# Altium schematic symbol library T8_devkit_PCB.SchLib: 19 symbols
Pins are listed as number, name and electrical type; pins without a type are passive.

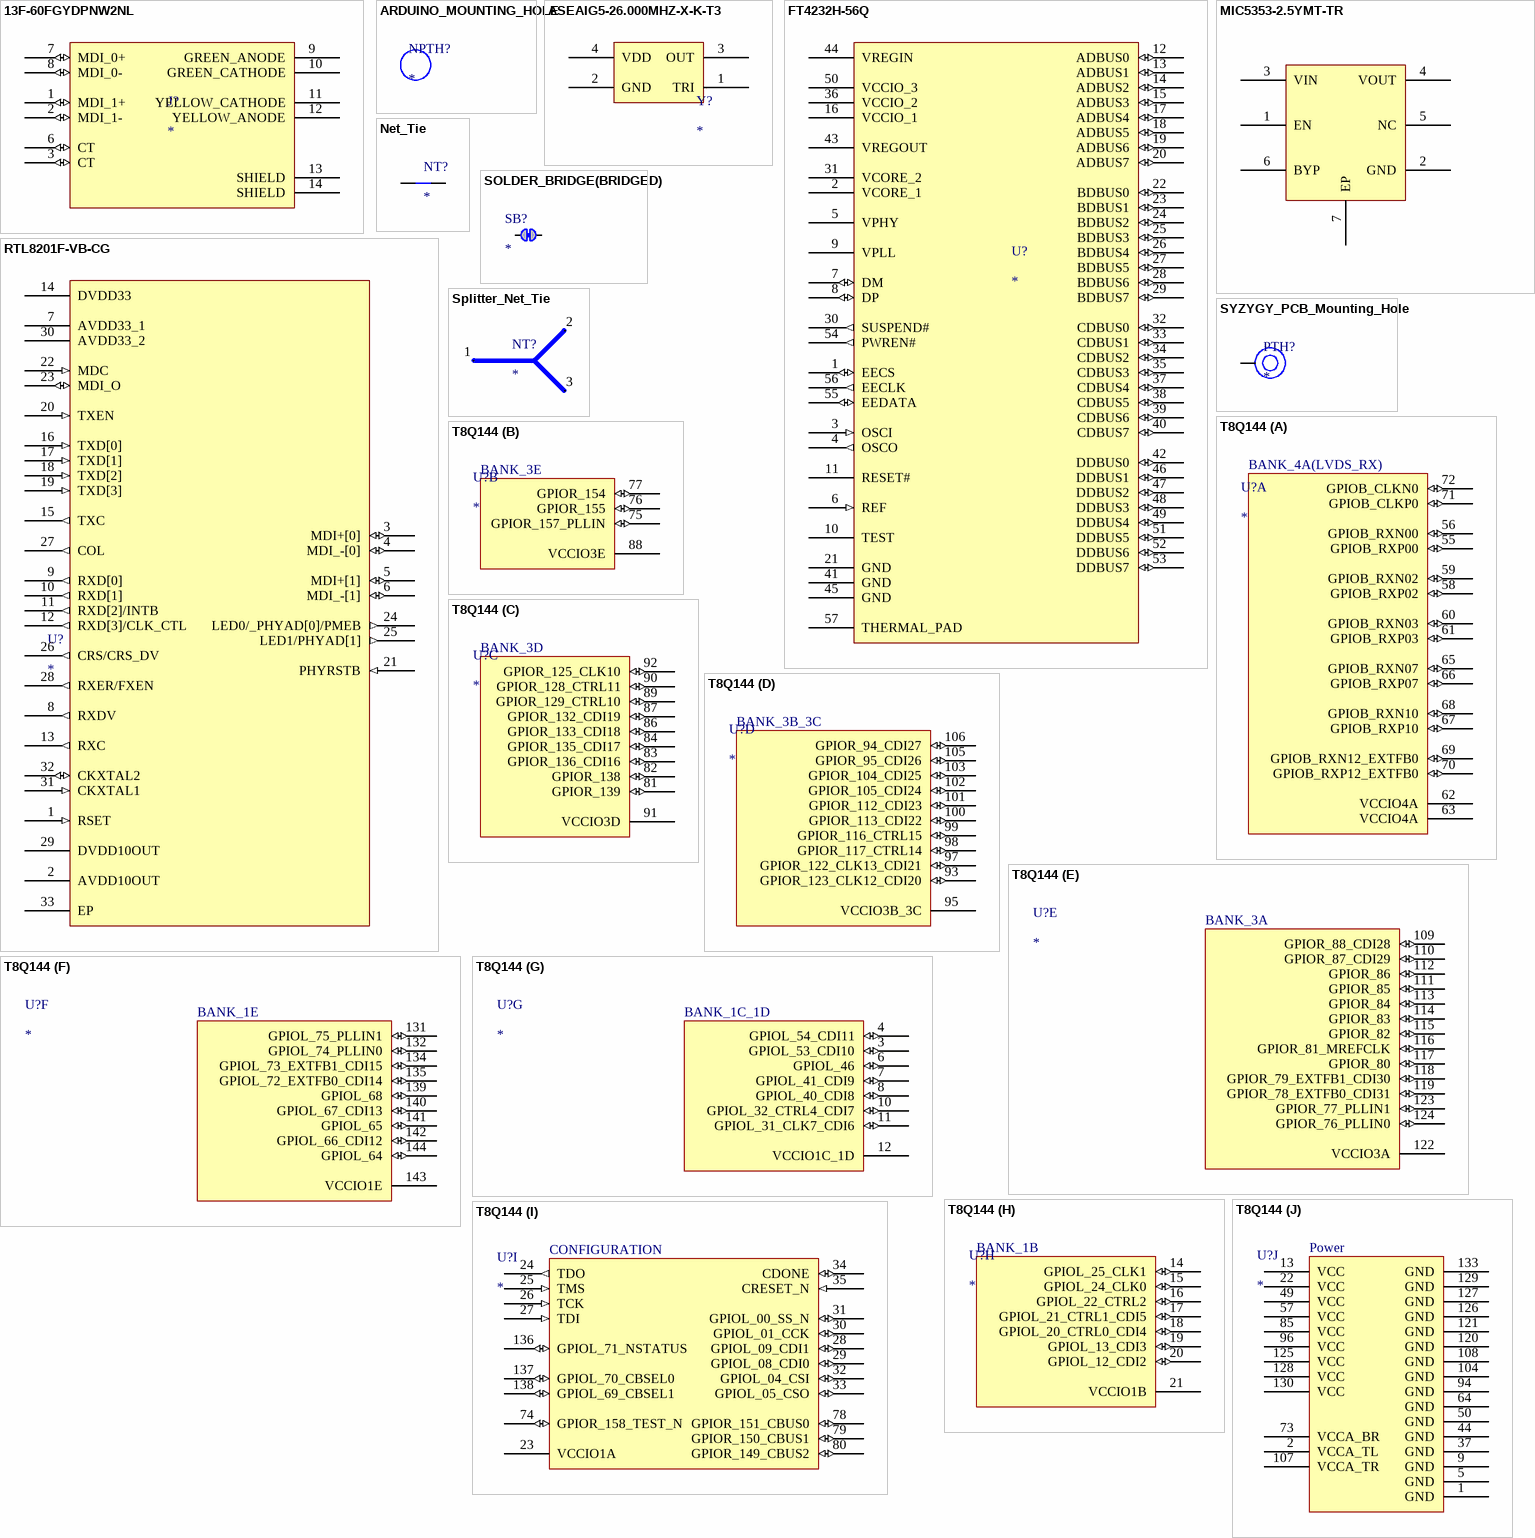
[diagram p0: symbols 13F-60FGYDPNW2NL to T8Q144]

## 13F-60FGYDPNW2NL
designator J?
RJ45 RJReceptacle 1 Internal oscillator included  WithLED Plugin  Ethernet Connectors/Modular Connectors (RJ45 RJ11) ROHS; Manufacturer: Shanghai YDS Tech; Manufacturer Part Number: 13F-60FGYDPNW2NL; Number of Ports: 1; LCSC Part Number: C115955; Package: Plugin; ComponentLink1Description: Datasheet; ComponentLink1URL: https://datasheet.lcsc.com/lcsc/1811141132_Shanghai-YDS-Tech-13F-60FGYDPNW2NL_C115955.pdf; ComponentLink2Description: LCSC Link; ComponentLink2URL: https://www.lcsc.com/product-detail/Ethernet-Connectors-Modular-Connectors-RJ45-RJ11_Shanghai-YDS-Tech-13F-60FGYDPNW2NL_C115955.html; USOC Codes: RJ45; Connector Type: RJReceptacle; Ratings: -; LED: WithLED
footprint RJ4516.26X21.59X13.84 (RJ45 ETHERNET CONNECTOR 16.26X21.59X13.84)
pins: 1 MDI_1+ (io), 2 MDI_1- (io), 3 CT (io), 6 CT (io), 7 MDI_0+ (io), 8 MDI_0- (io), 9 GREEN_ANODE (power), 10 GREEN_CATHODE (power), 11 YELLOW_CATHODE (power), 12 YELLOW_ANODE (power), 13 SHIELD, 14 SHIELD

## ARDUINO_MOUNTING_HOLE
designator NPTH?
ARDUINO_MOUNTING_HOLE
footprint ARDUINO_MOUNTING_HOLE

## ASEAIG5-26.000MHZ-X-K-T3
designator Y?
26 MHz XO (Standard) CMOS Oscillator 1.8V ~ 3.3V Enable/Disable 4-SMD, No Lead
pins: 1 TRI, 2 GND, 3 OUT, 4 VDD

## FT4232H-56Q
designator U?
USB Bridge, USB to UART,FIFO USB 2.0 FIFO Interface 56-VQFN (8x8); Manufacturer: FTDI, Future Technology Devices International Ltd; Manufacturer Product Number: FT4232H-56Q-REEL; Standards: USB 2.0; Voltage - Supply: 3.3V; Supplier 1: Digi-Key; Supplier Part Number 1: 768-1378-1-ND; Supplier 2: Digi-Key; Supplier Part Number 2: 768-1378-6-ND; Supplier 3: RSComponents; Supplier Part Number 3: 1115836; Series: -; Protocol: USB; Function: Bridge, USB to UART,FIFO; Interface: FIFO; Current - Supply: -; ComponentLink1Description: Datasheet; ComponentLink1URL: https://www.ftdichip.com/Support/Documents/DataSheets/ICs/DS_FT4232H.pdf; ComponentLink2Description: Digi-Key Link; ComponentLink2URL: https://www.digikey.com/en/products/detail/ftdi-future-technology-devices-international-ltd/FT4232H-56Q-REEL/5994692; Operating Temperature: -40°C ~ 85°C; Package / Case: 56-VFQFN Exposed Pad; Supplier Device Package: 56-VQFN (8x8)
footprint QFN50P800X800X100-57N-D (QFN, 56-Leads, Body 8.00x8.00mm, Pitch 0.50mm, IPC Medium Density)
pins: 1 EECS (io), 2 VCORE_1 (power), 3 OSCI (in), 4 OSCO (out), 5 VPHY (power), 6 REF (in), 7 DM (io), 8 DP (io), 9 VPLL (power), 10 TEST, 11 RESET#, 12 ADBUS0 (io), 13 ADBUS1 (io), 14 ADBUS2 (io), 15 ADBUS3 (io), 16 VCCIO_1 (power), 17 ADBUS4 (io), 18 ADBUS5 (io), 19 ADBUS6 (io), 20 ADBUS7 (io), 21 GND (power), 22 BDBUS0 (io), 23 BDBUS1 (io), 24 BDBUS2 (io), 25 BDBUS3 (io), 26 BDBUS4 (io), 27 BDBUS5 (io), 28 BDBUS6 (io), 29 BDBUS7 (io), 30 SUSPEND# (out), 31 VCORE_2 (power), 32 CDBUS0 (io), 33 CDBUS1 (io), 34 CDBUS2 (io), 35 CDBUS3 (io), 36 VCCIO_2 (power), 37 CDBUS4 (io), 38 CDBUS5 (io), 39 CDBUS6 (io), 40 CDBUS7 (io), 41 GND (power), 42 DDBUS0 (io), 43 VREGOUT (power), 44 VREGIN (power), 45 GND (power), 46 DDBUS1 (io), 47 DDBUS2 (io), 48 DDBUS3 (io), 49 DDBUS4 (io), 50 VCCIO_3 (power), 51 DDBUS5 (io), 52 DDBUS6 (io), 53 DDBUS7 (io), 54 PWREN# (out), 55 EEDATA (io), 56 EECLK (out), 57 THERMAL_PAD

## MIC5353-2.5YMT-TR
designator IC?
Linear Voltage Regulator IC Positive Fixed 1 Output 500mA 6-TMLF® (1.6x1.6)
footprint SON50P160X160X60-7N
pins: 1 EN, 2 GND, 3 VIN, 4 VOUT, 5 NC, 6 BYP, 7 EP

## Net_Tie
designator NT?  (net tie, no BOM)
Net Tie
footprint Net_Tie 1X1 (Net Tie)
footprint Net_Tie 0.5X0.5 (Net Tie)
footprint Net_Tie 0.254X0.254 (Net Tie)
footprint Net_Tie 0.2X0.2 (Net Tie)
pins: 1, 2

## RTL8201F-VB-CG
designator U?
Physical Layer Transceivers 2.97V ~ 3.63V IEEE 802.3, 10/100 Base-T/TX/FX PHY MII, SNI, SMI QFN-32_5x5x05P Ethernet ICs ROHS; Manufacturer: Realtek Semicon; Manufacturer Part Number: RTL8201F-VB-CG; ComponentLink1Description: LCSC Link; ComponentLink1URL: https://www.lcsc.com/product-detail/Ethernet-ICs_Realtek-Semicon-RTL8201F-VB-CG_C45044.html; ComponentLink2Description: Datasheet; ComponentLink2URL: https://datasheetspdf.com/pdf-file/845737/Realtek/RTL8201F-VB-CG/1; Category: Communication Interface Chip/UART/485/232/Ethernet ICs; Type: Physical Layer Transceivers; Supply Voltage: 2.97V ~ 3.63V; Standards: IEEE 802.3, 10/100 Base-T/TX/FX PHY; Interface: MII, SNI, SMI; Package: QFN-32_5x5x05P; Supplier 1: Bison Technologies; Supplier Part Number 1: RTL8201F-VB-CG-220741-REALTEK; Supplier 2: Future Electronics; Supplier Part Number 2: 4019222
footprint QFN50P500X500X100_HS-33N (QFN, 32-Leads, Body 5.00x5.00mm, Pitch 0.50mm, Thermal Pad 3.35x3.35mm, IPC Medium Density)
pins: 1 RSET (in), 2 AVDD10OUT (power), 3 MDI+[0] (io), 4 MDI_-[0] (io), 5 MDI+[1] (io), 6 MDI_-[1] (io), 7 AVDD33_1 (power), 8 RXDV (out), 9 RXD[0] (out), 10 RXD[1] (out), 11 RXD[2]/INTB (out), 12 RXD[3]/CLK_CTL (out), 13 RXC (out), 14 DVDD33 (power), 15 TXC (out), 16 TXD[0] (in), 17 TXD[1] (in), 18 TXD[2] (in), 19 TXD[3] (in), 20 TXEN (in), 21 PHYRSTB (in), 22 MDC (in), 23 MDI_O (io), 24 LED0/_PHYAD[0]/PMEB (out), 25 LED1/PHYAD[1] (out), 26 CRS/CRS_DV (out), 27 COL (out), 28 RXER/FXEN (out), 29 DVDD10OUT (power), 30 AVDD33_2 (power), 31 CKXTAL1 (in), 32 CKXTAL2 (io), 33 EP (power)

## SOLDER_BRIDGE(BRIDGED)
designator SB?
SOLDER_BRIDGE(BRIDGED)
footprint SOLDER_BRIDGE(BRIDGED)
pins: 1, 2

## Splitter_Net_Tie
designator NT?  (net tie, no BOM)
Splitter_Net_Tie
footprint GENERIC SPLITTER NET TIE
pins: 1, 2, 3

## SYZYGY_PCB_Mounting_Hole
designator PTH?  (mechanical)
SYZYGY_PCB_Mounting_Hole
footprint SYZYGY_PCB_Mounting_Hole
pins: 1

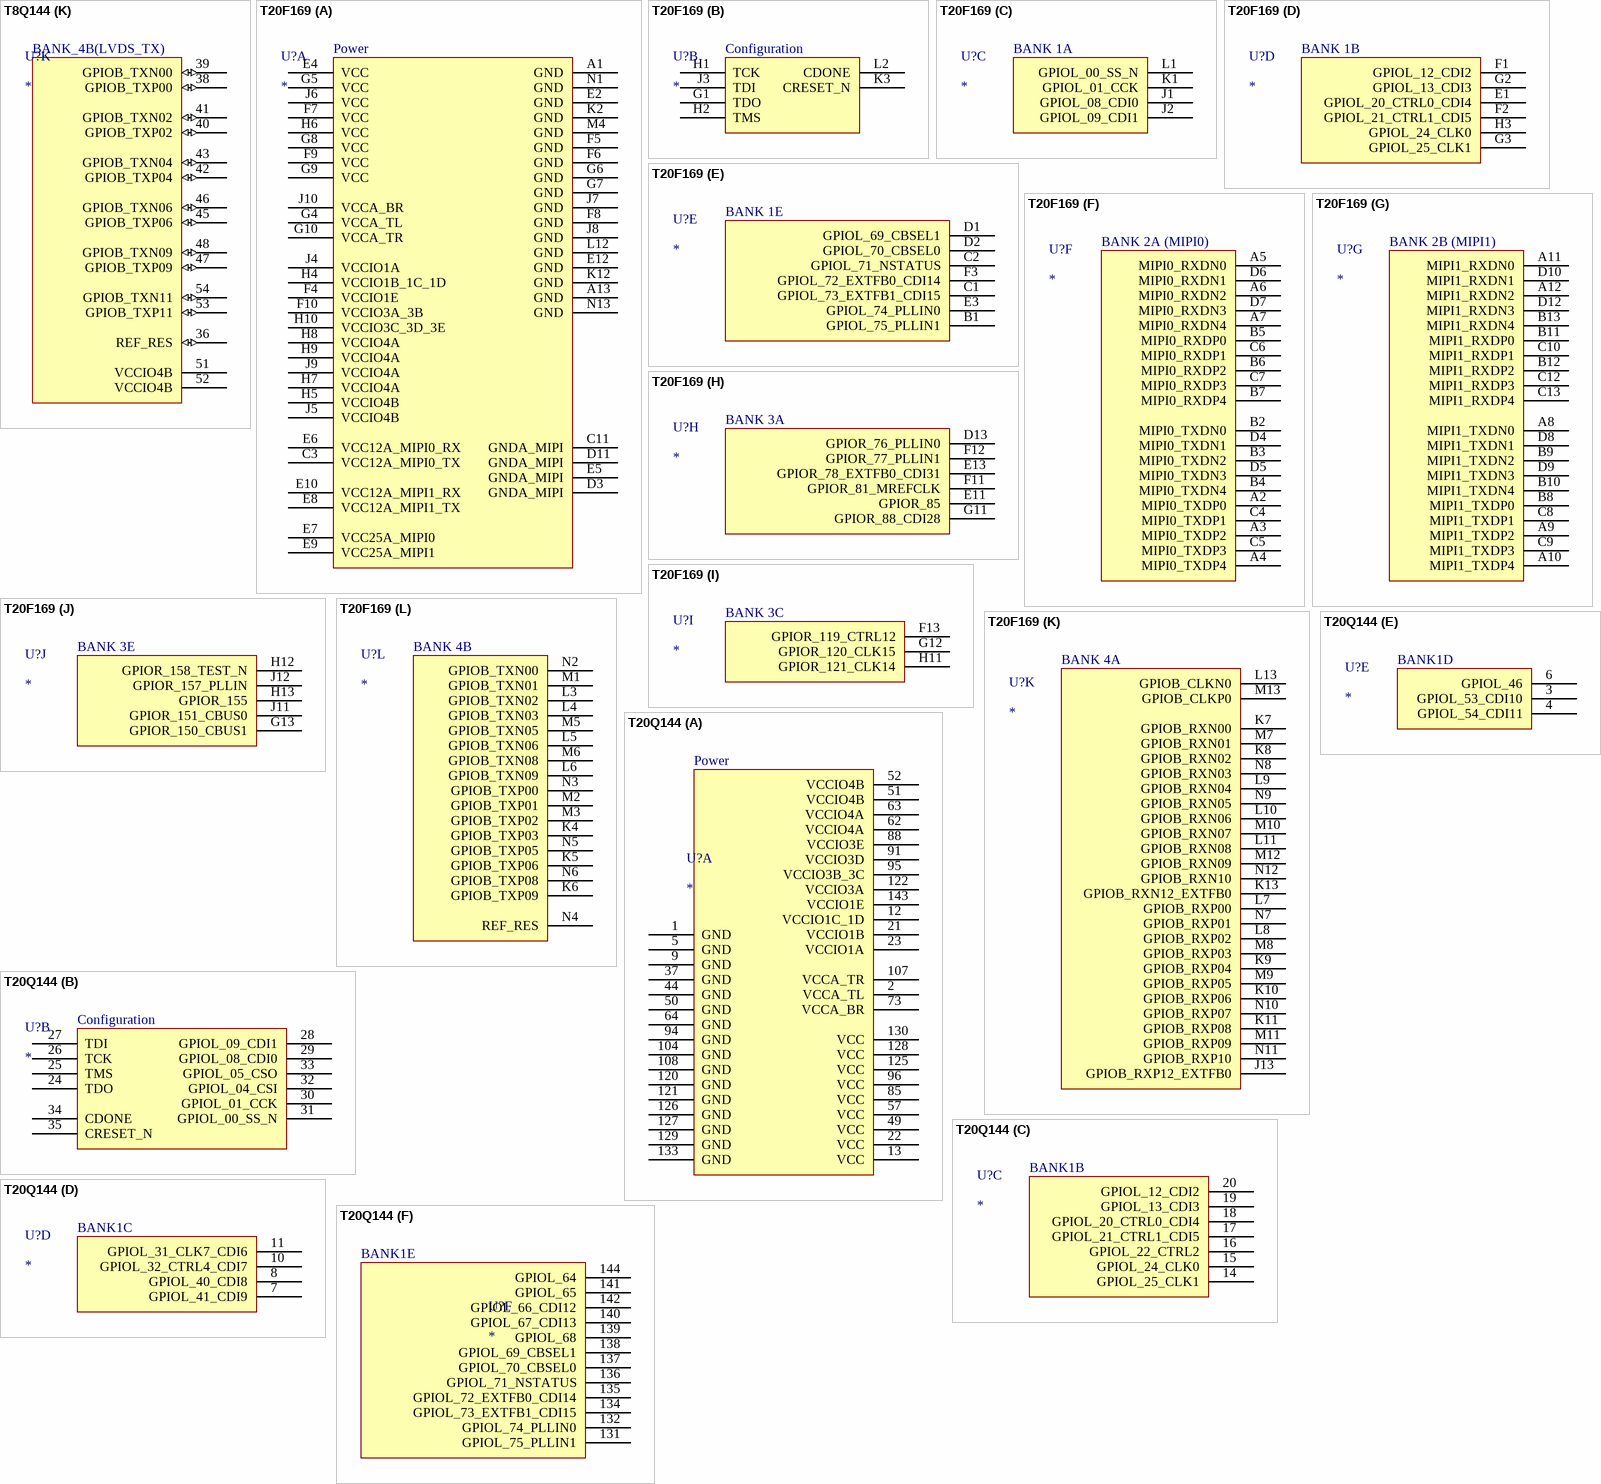
[diagram p1: symbols T8Q144 to T20Q144]

## T8Q144
designator U?
Trion® Field Programmable Gate Array (FPGA) IC 97 125952 7384 144-LQFP; Manufacturer: Efinix, Inc.; Manufacturer Product Number: T8Q144I4; Number of Logic Elements/Cells: 7384; Total RAM Bits: 125952; Number of I/O: 97; Voltage - Supply: 1.15V ~ 1.25V; Base Product Number: T8Q144; ComponentLink1Description: Datasheet; ComponentLink1URL: https://www.efinixinc.com/docs/trion8-ds-v4.0.pdf; ComponentLink2Description: Digi-Key Link; ComponentLink2URL: https://www.digikey.com/en/products/detail/efinix-inc/T8Q144I4/11591372; Mounting Type: Surface Mount; Operating Temperature: -40°C ~ 100°C (TJ); Package / Case: 144-LQFP; Supplier 1: Digi-Key; Supplier Part Number 1: 2134-T8Q144I4-ND; Supplier 2: Digi-Key; Supplier Part Number 2: 2134-T8Q144C3-ND; Supplier 3: Digi-Key; Supplier Part Number 3: 2134-T8Q144C4-ND; Supplier Device Package: 144-LQFP (20x20)
footprint CQFP50P2200X2200X160-144N (CQFP, 144-Leads, Body 22.00x22.00mm, Pitch 0.50mm, IPC Medium Density)
ibis T8 (Trion T8 IBIS model)
signal-integrity model T8_SI (Trion T8 Signal Integrity model)
part A pins: 55 GPIOB_RXP00 (io), 56 GPIOB_RXN00 (io), 58 GPIOB_RXP02 (io), 59 GPIOB_RXN02 (io), 60 GPIOB_RXN03 (io), 61 GPIOB_RXP03 (io), 62 VCCIO4A (power), 63 VCCIO4A (power), 65 GPIOB_RXN07 (io), 66 GPIOB_RXP07 (io), 67 GPIOB_RXP10 (io), 68 GPIOB_RXN10 (io), 69 GPIOB_RXN12_EXTFB0 (io), 70 GPIOB_RXP12_EXTFB0 (io), 71 GPIOB_CLKP0 (io), 72 GPIOB_CLKN0 (io)
part B pins: 75 GPIOR_157_PLLIN (io), 76 GPIOR_155 (io), 77 GPIOR_154 (io), 88 VCCIO3E
part C pins: 81 GPIOR_139 (io), 82 GPIOR_138 (io), 83 GPIOR_136_CDI16 (io), 84 GPIOR_135_CDI17 (io), 86 GPIOR_133_CDI18 (io), 87 GPIOR_132_CDI19 (io), 89 GPIOR_129_CTRL10 (io), 90 GPIOR_128_CTRL11 (io), 91 VCCIO3D (power), 92 GPIOR_125_CLK10 (io)
part D pins: 93 GPIOR_123_CLK12_CDI20 (io), 95 VCCIO3B_3C, 97 GPIOR_122_CLK13_CDI21 (io), 98 GPIOR_117_CTRL14 (io), 99 GPIOR_116_CTRL15 (io), 100 GPIOR_113_CDI22 (io), 101 GPIOR_112_CDI23 (io), 102 GPIOR_105_CDI24 (io), 103 GPIOR_104_CDI25 (io), 105 GPIOR_95_CDI26 (io), 106 GPIOR_94_CDI27 (io)
part E pins: 109 GPIOR_88_CDI28 (io), 110 GPIOR_87_CDI29 (io), 111 GPIOR_85 (io), 112 GPIOR_86 (io), 113 GPIOR_84 (io), 114 GPIOR_83 (io), 115 GPIOR_82 (io), 116 GPIOR_81_MREFCLK (io), 117 GPIOR_80 (io), 118 GPIOR_79_EXTFB1_CDI30 (io), 119 GPIOR_78_EXTFB0_CDI31 (io), 122 VCCIO3A (power), 123 GPIOR_77_PLLIN1 (io), 124 GPIOR_76_PLLIN0 (io)
part F pins: 131 GPIOL_75_PLLIN1 (io), 132 GPIOL_74_PLLIN0 (io), 134 GPIOL_73_EXTFB1_CDI15 (io), 135 GPIOL_72_EXTFB0_CDI14 (io), 139 GPIOL_68 (io), 140 GPIOL_67_CDI13 (io), 141 GPIOL_65 (io), 142 GPIOL_66_CDI12 (io), 143 VCCIO1E (power), 144 GPIOL_64 (io)
part G pins: 3 GPIOL_53_CDI10 (io), 4 GPIOL_54_CDI11 (io), 6 GPIOL_46 (io), 7 GPIOL_41_CDI9 (io), 8 GPIOL_40_CDI8 (io), 10 GPIOL_32_CTRL4_CDI7 (io), 11 GPIOL_31_CLK7_CDI6 (io), 12 VCCIO1C_1D (power)
part H pins: 14 GPIOL_25_CLK1 (io), 15 GPIOL_24_CLK0 (io), 16 GPIOL_22_CTRL2 (io), 17 GPIOL_21_CTRL1_CDI5 (io), 18 GPIOL_20_CTRL0_CDI4 (io), 19 GPIOL_13_CDI3 (io), 20 GPIOL_12_CDI2 (io), 21 VCCIO1B (power)
part I pins: 23 VCCIO1A (power), 24 TDO (out), 25 TMS (in), 26 TCK (in), 27 TDI (in), 28 GPIOL_09_CDI1 (io), 29 GPIOL_08_CDI0 (io), 30 GPIOL_01_CCK (io), 31 GPIOL_00_SS_N (io), 32 GPIOL_04_CSI (io), 33 GPIOL_05_CSO (io), 34 CDONE (io), 35 CRESET_N (in), 74 GPIOR_158_TEST_N (io), 78 GPIOR_151_CBUS0 (io), 79 GPIOR_150_CBUS1 (io), 80 GPIOR_149_CBUS2 (io), 136 GPIOL_71_NSTATUS (io), 137 GPIOL_70_CBSEL0 (io), 138 GPIOL_69_CBSEL1 (io)
part J pins: 1 GND (power), 2 VCCA_TL, 5 GND (power), 9 GND (power), 13 VCC (power), 22 VCC (power), 37 GND (power), 44 GND (power), 49 VCC (power), 50 GND (power), 57 VCC (power), 64 GND (power), 73 VCCA_BR, 85 VCC (power), 94 GND (power), 96 VCC (power), 104 GND (power), 107 VCCA_TR, 108 GND (power), 120 GND (power), 121 GND (power), 125 VCC (power), 126 GND (power), 127 GND (power), 128 VCC (power), 129 GND (power), 130 VCC (power), 133 GND (power)
part K pins: 36 REF_RES (io), 38 GPIOB_TXP00 (io), 39 GPIOB_TXN00 (io), 40 GPIOB_TXP02 (io), 41 GPIOB_TXN02 (io), 42 GPIOB_TXP04 (io), 43 GPIOB_TXN04 (io), 45 GPIOB_TXP06 (io), 46 GPIOB_TXN06 (io), 47 GPIOB_TXP09 (io), 48 GPIOB_TXN09 (io), 51 VCCIO4B (power), 52 VCCIO4B (power), 53 GPIOB_TXP11 (io), 54 GPIOB_TXN11 (io)
part A text: BANK_4A(LVDS_RX)
part B text: BANK_3E
part C text: BANK_3D
part D text: BANK_3B_3C
part E text: BANK_3A
part F text: BANK_1E
part G text: BANK_1C_1D
part H text: BANK_1B
part I text: CONFIGURATION
part J text: Power
part K text: BANK_4B(LVDS_TX)

## T20F169
designator U?
Trion® Field Programmable Gate Array (FPGA) IC 73 1069548 19728 169-VFBGA
footprint BGA169C65P13X13_900X900X100 (BGA, 169-Leads, Body 9.00x9.00mmx1.00mm, Pitch 0.65mm)
part A pins: A1 GND, A13 GND, C3 VCC12A_MIPI0_TX, C11 GNDA_MIPI, D3 GNDA_MIPI, D11 GNDA_MIPI, E2 GND, E4 VCC, E5 GNDA_MIPI, E6 VCC12A_MIPI0_RX, E7 VCC25A_MIPI0, E8 VCC12A_MIPI1_TX, E9 VCC25A_MIPI1, E10 VCC12A_MIPI1_RX, E12 GND, F4 VCCIO1E, F5 GND, F6 GND, F7 VCC, F8 GND, F9 VCC, F10 VCCIO3A_3B, G4 VCCA_TL, G5 VCC, G6 GND, G7 GND, G8 VCC, G9 VCC, G10 VCCA_TR, H4 VCCIO1B_1C_1D, H5 VCCIO4B, H6 VCC, H7 VCCIO4A, H8 VCCIO4A, H9 VCCIO4A, H10 VCCIO3C_3D_3E, J4 VCCIO1A, J5 VCCIO4B, J6 VCC, J7 GND, J8 GND, J9 VCCIO4A, J10 VCCA_BR, K2 GND, K12 GND, L12 GND, M4 GND, N1 GND, N13 GND
part B pins: G1 TDO, H1 TCK, H2 TMS, J3 TDI, K3 CRESET_N, L2 CDONE
part C pins: J1 GPIOL_08_CDI0, J2 GPIOL_09_CDI1, K1 GPIOL_01_CCK, L1 GPIOL_00_SS_N
part D pins: E1 GPIOL_20_CTRL0_CDI4, F1 GPIOL_12_CDI2, F2 GPIOL_21_CTRL1_CDI5, G2 GPIOL_13_CDI3, G3 GPIOL_25_CLK1, H3 GPIOL_24_CLK0
part E pins: B1 GPIOL_75_PLLIN1, C1 GPIOL_73_EXTFB1_CDI15, C2 GPIOL_71_NSTATUS, D1 GPIOL_69_CBSEL1, D2 GPIOL_70_CBSEL0, E3 GPIOL_74_PLLIN0, F3 GPIOL_72_EXTFB0_CDI14
part F pins: A2 MIPI0_TXDP0, A3 MIPI0_TXDP2, A4 MIPI0_TXDP4, A5 MIPI0_RXDN0, A6 MIPI0_RXDN2, A7 MIPI0_RXDN4, B2 MIPI0_TXDN0, B3 MIPI0_TXDN2, B4 MIPI0_TXDN4, B5 MIPI0_RXDP0, B6 MIPI0_RXDP2, B7 MIPI0_RXDP4, C4 MIPI0_TXDP1, C5 MIPI0_TXDP3, C6 MIPI0_RXDP1, C7 MIPI0_RXDP3, D4 MIPI0_TXDN1, D5 MIPI0_TXDN3, D6 MIPI0_RXDN1, D7 MIPI0_RXDN3
part G pins: A8 MIPI1_TXDN0, A9 MIPI1_TXDP2, A10 MIPI1_TXDP4, A11 MIPI1_RXDN0, A12 MIPI1_RXDN2, B8 MIPI1_TXDP0, B9 MIPI1_TXDN2, B10 MIPI1_TXDN4, B11 MIPI1_RXDP0, B12 MIPI1_RXDP2, B13 MIPI1_RXDN4, C8 MIPI1_TXDP1, C9 MIPI1_TXDP3, C10 MIPI1_RXDP1, C12 MIPI1_RXDP3, C13 MIPI1_RXDP4, D8 MIPI1_TXDN1, D9 MIPI1_TXDN3, D10 MIPI1_RXDN1, D12 MIPI1_RXDN3
part H pins: D13 GPIOR_76_PLLIN0, E11 GPIOR_85, E13 GPIOR_78_EXTFB0_CDI31, F11 GPIOR_81_MREFCLK, F12 GPIOR_77_PLLIN1, G11 GPIOR_88_CDI28
part I pins: F13 GPIOR_119_CTRL12, G12 GPIOR_120_CLK15, H11 GPIOR_121_CLK14
part J pins: G13 GPIOR_150_CBUS1, H12 GPIOR_158_TEST_N, H13 GPIOR_155, J11 GPIOR_151_CBUS0, J12 GPIOR_157_PLLIN
part K pins: J13 GPIOB_RXP12_EXTFB0, K7 GPIOB_RXN00, K8 GPIOB_RXN02, K9 GPIOB_RXP04, K10 GPIOB_RXP06, K11 GPIOB_RXP08, K13 GPIOB_RXN12_EXTFB0, L7 GPIOB_RXP00, L8 GPIOB_RXP02, L9 GPIOB_RXN04, L10 GPIOB_RXN06, L11 GPIOB_RXN08, L13 GPIOB_CLKN0, M7 GPIOB_RXN01, M8 GPIOB_RXP03, M9 GPIOB_RXP05, M10 GPIOB_RXN07, M11 GPIOB_RXP09, M12 GPIOB_RXN09, M13 GPIOB_CLKP0, N7 GPIOB_RXP01, N8 GPIOB_RXN03, N9 GPIOB_RXN05, N10 GPIOB_RXP07, N11 GPIOB_RXP10, N12 GPIOB_RXN10
part L pins: K4 GPIOB_TXP03, K5 GPIOB_TXP06, K6 GPIOB_TXP09, L3 GPIOB_TXN02, L4 GPIOB_TXN03, L5 GPIOB_TXN06, L6 GPIOB_TXN09, M1 GPIOB_TXN01, M2 GPIOB_TXP01, M3 GPIOB_TXP02, M5 GPIOB_TXN05, M6 GPIOB_TXN08, N2 GPIOB_TXN00, N3 GPIOB_TXP00, N4 REF_RES, N5 GPIOB_TXP05, N6 GPIOB_TXP08
part A text: Power
part B text: Configuration
part C text: BANK 1A
part D text: BANK 1B
part E text: BANK 1E
part F text: BANK 2A (MIPI0)
part G text: BANK 2B (MIPI1)
part H text: BANK 3A
part I text: BANK 3C
part J text: BANK 3E
part K text: BANK 4A
part L text: BANK 4B

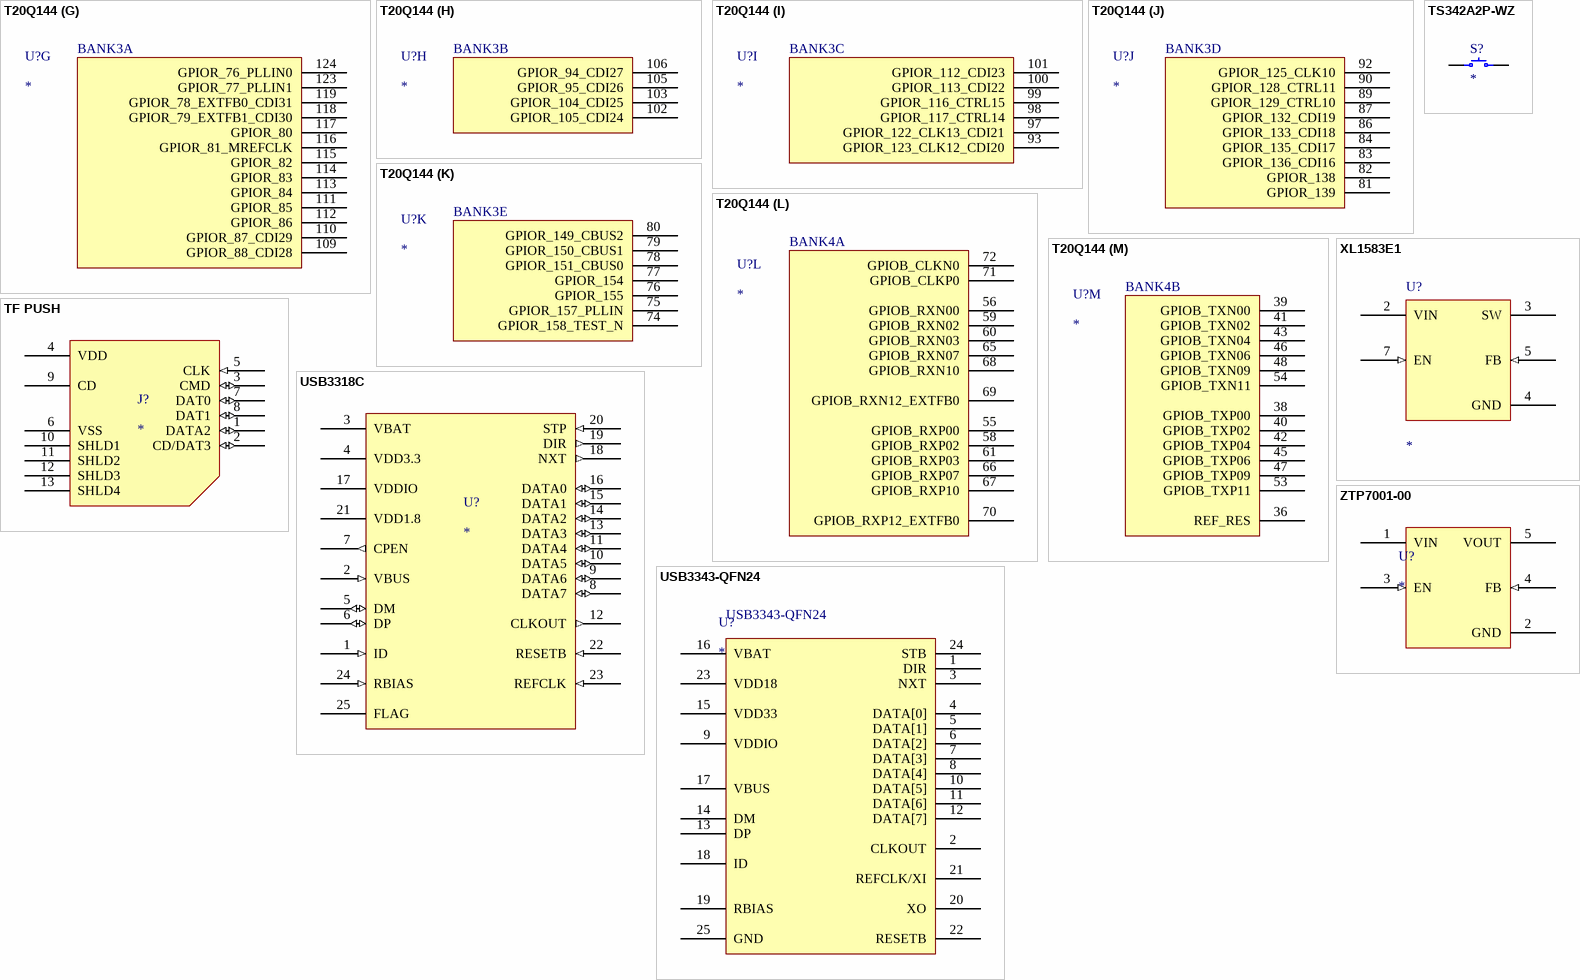
[diagram p2: symbols T20Q144 to ZTP7001-00]

## T20Q144
designator U?
Trion® Field Programmable Gate Array (FPGA) IC 97 1044 19728 144-LQFP
footprint CQFP50P2200X2200X160-144N (CQFP, 144-Leads, Body 22.00x22.00mm, Pitch 0.50mm, IPC Medium Density)
part A pins: 1 GND, 2 VCCA_TL, 5 GND, 9 GND, 12 VCCIO1C_1D, 13 VCC, 21 VCCIO1B, 22 VCC, 23 VCCIO1A, 37 GND, 44 GND, 49 VCC, 50 GND, 51 VCCIO4B, 52 VCCIO4B, 57 VCC, 62 VCCIO4A, 63 VCCIO4A, 64 GND, 73 VCCA_BR, 85 VCC, 88 VCCIO3E, 91 VCCIO3D, 94 GND, 95 VCCIO3B_3C, 96 VCC, 104 GND, 107 VCCA_TR, 108 GND, 120 GND, 121 GND, 122 VCCIO3A, 125 VCC, 126 GND, 127 GND, 128 VCC, 129 GND, 130 VCC, 133 GND, 143 VCCIO1E
part B pins: 24 TDO, 25 TMS, 26 TCK, 27 TDI, 28 GPIOL_09_CDI1, 29 GPIOL_08_CDI0, 30 GPIOL_01_CCK, 31 GPIOL_00_SS_N, 32 GPIOL_04_CSI, 33 GPIOL_05_CSO, 34 CDONE, 35 CRESET_N
part C pins: 14 GPIOL_25_CLK1, 15 GPIOL_24_CLK0, 16 GPIOL_22_CTRL2, 17 GPIOL_21_CTRL1_CDI5, 18 GPIOL_20_CTRL0_CDI4, 19 GPIOL_13_CDI3, 20 GPIOL_12_CDI2
part D pins: 7 GPIOL_41_CDI9, 8 GPIOL_40_CDI8, 10 GPIOL_32_CTRL4_CDI7, 11 GPIOL_31_CLK7_CDI6
part E pins: 3 GPIOL_53_CDI10, 4 GPIOL_54_CDI11, 6 GPIOL_46
part F pins: 131 GPIOL_75_PLLIN1, 132 GPIOL_74_PLLIN0, 134 GPIOL_73_EXTFB1_CDI15, 135 GPIOL_72_EXTFB0_CDI14, 136 GPIOL_71_NSTATUS, 137 GPIOL_70_CBSEL0, 138 GPIOL_69_CBSEL1, 139 GPIOL_68, 140 GPIOL_67_CDI13, 141 GPIOL_65, 142 GPIOL_66_CDI12, 144 GPIOL_64
part G pins: 109 GPIOR_88_CDI28, 110 GPIOR_87_CDI29, 111 GPIOR_85, 112 GPIOR_86, 113 GPIOR_84, 114 GPIOR_83, 115 GPIOR_82, 116 GPIOR_81_MREFCLK, 117 GPIOR_80, 118 GPIOR_79_EXTFB1_CDI30, 119 GPIOR_78_EXTFB0_CDI31, 123 GPIOR_77_PLLIN1, 124 GPIOR_76_PLLIN0
part H pins: 102 GPIOR_105_CDI24, 103 GPIOR_104_CDI25, 105 GPIOR_95_CDI26, 106 GPIOR_94_CDI27
part I pins: 93 GPIOR_123_CLK12_CDI20, 97 GPIOR_122_CLK13_CDI21, 98 GPIOR_117_CTRL14, 99 GPIOR_116_CTRL15, 100 GPIOR_113_CDI22, 101 GPIOR_112_CDI23
part J pins: 81 GPIOR_139, 82 GPIOR_138, 83 GPIOR_136_CDI16, 84 GPIOR_135_CDI17, 86 GPIOR_133_CDI18, 87 GPIOR_132_CDI19, 89 GPIOR_129_CTRL10, 90 GPIOR_128_CTRL11, 92 GPIOR_125_CLK10
part K pins: 74 GPIOR_158_TEST_N, 75 GPIOR_157_PLLIN, 76 GPIOR_155, 77 GPIOR_154, 78 GPIOR_151_CBUS0, 79 GPIOR_150_CBUS1, 80 GPIOR_149_CBUS2
part L pins: 55 GPIOB_RXP00, 56 GPIOB_RXN00, 58 GPIOB_RXP02, 59 GPIOB_RXN02, 60 GPIOB_RXN03, 61 GPIOB_RXP03, 65 GPIOB_RXN07, 66 GPIOB_RXP07, 67 GPIOB_RXP10, 68 GPIOB_RXN10, 69 GPIOB_RXN12_EXTFB0, 70 GPIOB_RXP12_EXTFB0, 71 GPIOB_CLKP0, 72 GPIOB_CLKN0
part M pins: 36 REF_RES, 38 GPIOB_TXP00, 39 GPIOB_TXN00, 40 GPIOB_TXP02, 41 GPIOB_TXN02, 42 GPIOB_TXP04, 43 GPIOB_TXN04, 45 GPIOB_TXP06, 46 GPIOB_TXN06, 47 GPIOB_TXP09, 48 GPIOB_TXN09, 53 GPIOB_TXP11, 54 GPIOB_TXN11
part A text: Power
part B text: Configuration
part C text: BANK1B
part D text: BANK1C
part E text: BANK1D
part F text: BANK1E
part G text: BANK3A
part H text: BANK3B
part I text: BANK3C
part J text: BANK3D
part K text: BANK3E
part L text: BANK4A
part M text: BANK4B

## TF PUSH
designator J?
-20℃~+90℃ 2mm Deck MicroSD card (TF card) Self bomb SMD SD Card Connectors ROHS; Manufacturer: SHOU HAN; Manufacturer Part Number: TF PUSH; ComponentLink1Description: Datasheet; ComponentLink1URL: https://datasheet.lcsc.com/lcsc/1912111437_SHOU-HAN-TF-PUSH_C393941.pdf; ComponentLink2Description: LCSC Link; ComponentLink2URL: https://www.lcsc.com/product-detail/SD-Card-Connectors_SHOU-HAN-TF-PUSH_C393941.html; LCSC Part Number: C393941; Package: SMD; Category: Connectors/SD Card Connectors; Operating Temperature Range: -20℃~+90℃; Maximum Body Height: 2mm; Connector Type: Deck; Card Type: MicroSD card (TF card); Card Connection Mode: Self bomb
footprint TF PUSH (Body 14.75mmx14.50mm, Pitch 1.8mm)
pins: 1 DATA2 (io), 2 CD/DAT3 (io), 3 CMD (io), 4 VDD (power), 5 CLK (in), 6 VSS (power), 7 DAT0 (io), 8 DAT1 (io), 9 CD, 10 SHLD1, 11 SHLD2, 12 SHLD3, 13 SHLD4

## TS342A2P-WZ
designator S?
NO SMDSplicing 50mA 3.95mm 100MΩ 30000 12V 2.9mm -25℃~+70℃ 2mm Black Round Button Brick nogging SPST SMD Tactile Switches ROHS; Manufacturer: SHOU HAN; Manufacturer Part Number: TS342A2P-WZ; Mechanical Life: 30000; ComponentLink1Description: Datasheet; ComponentLink1URL: https://datasheet.lcsc.com/lcsc/2005221232_SHOU-HAN-TS342A2P-WZ_C557591.pdf; ComponentLink2Description: LCSC Link; ComponentLink2URL: https://www.lcsc.com/product-detail/Tactile-Switches_SHOU-HAN-TS342A2P-WZ_C557591.html; JLCPCB Part Number: C557591; Package: SMD; Contact Current: 50mA; Switch Length: 3.95mm; Insulation Resistance: 100MΩ; Voltage Rating (DC): 12V; Switch Width: 2.9mm; Actuator/Cap Color: Black; Actuator Style: Round Button; Mounting Style: Brick nogging; Circuit: SPST
footprint TS342A2P-WZ (3.95mm x 2.9mm x 2.1mm)
pins: 1, 2

## USB3318C
designator U?
Transceiver Half USB 2.0 24-QFN (4x4); Manufacturer: Microchip Technology; Manufacturer Product Number: USB3318C-CP-TR; Protocol: USB 2.0; Receiver Hysteresis: 150 mV; Voltage - Supply: 1.8V ~ 3.3V; Base Product Number: USB3318; Supplier 1: Digi-Key; Supplier Part Number 1: USB3318C-CP-TR-ND; Supplier 2: Digi-Key; Supplier Part Number 2: USB3318C-CP-DKR-ND; Supplier 3: Digi-Key; Supplier Part Number 3: USB3318C-CP-CT-ND; Supplier 4: Mouser; Supplier Part Number 4: 886-USB3318C-CP-TR; Supplier 5: Arrow Electronics; Supplier Part Number 5: USB3318C-CP-TR; ComponentLink1Description: Datasheet; ComponentLink1URL: https://ww1.microchip.com/downloads/en/DeviceDoc/3318.pdf; ComponentLink2Description: Digi-Key Link; ComponentLink2URL: https://www.digikey.com/en/products/detail/microchip-technology/USB3318C-CP-TR/3873187; Series: flexPWR™; Type: Transceiver; Number of Drivers/Receivers: -; Duplex: Half; Data Rate: -; Operating Temperature: -40°C ~ 85°C; Mounting Type: Surface Mount; Package / Case: 24-VQFN Exposed Pad; Supplier Device Package: 24-QFN (4x4)
footprint QFN50P400X400X100-25N-D (QFN, 24-Leads, Body 4.00x4.00mm, Pitch 0.70mm, IPC Medium Density)
pins: 1 ID (in), 2 VBUS (in), 3 VBAT (power), 4 VDD3.3 (power), 5 DM (io), 6 DP (io), 7 CPEN (out), 8 DATA7 (io), 9 DATA6 (io), 10 DATA5 (io), 11 DATA4 (io), 12 CLKOUT (out), 13 DATA3 (io), 14 DATA2 (io), 15 DATA1 (io), 16 DATA0 (io), 17 VDDIO (power), 18 NXT (out), 19 DIR (out), 20 STP (in), 21 VDD1.8 (power), 22 RESETB (in), 23 REFCLK (in), 24 RBIAS (in), 25 FLAG (power)

## USB3343-QFN24
designator U?
footprint QFN50P400X400X85_HS-25N (QFN, 24-Leads, Body 4.00x4.00mm, Pitch 0.50mm, Thermal Pad 2.50x2.50mm, IPC Medium Density)
pins: 1 DIR, 2 CLKOUT, 3 NXT, 4 DATA[0], 5 DATA[1], 6 DATA[2], 7 DATA[3], 8 DATA[4], 9 VDDIO, 10 DATA[5], 11 DATA[6], 12 DATA[7], 13 DP, 14 DM, 15 VDD33, 16 VBAT, 17 VBUS, 18 ID, 19 RBIAS, 20 XO, 21 REFCLK/XI, 22 RESETB, 23 VDD18, 24 STB, 25 GND

## XL1583E1
designator U?
NO Step-down type 1 Step-down 1.222V~21V 3.6V~23V 3A 380kHz SOP-8_150mil DC-DC Converters ROHS; Manufacturer: XLSEMI; Manufacturer Part Number: XL1583E1; Number of Outputs: 1; ComponentLink1Description: LCSC Link; ComponentLink1URL: https://www.lcsc.com/product-detail/DC-DC-Converters_span-style-background-color-ff0-XLSEMI-span-XL1583E1_C74196.html; ComponentLink2Description: Datasheet; ComponentLink2URL: chrome-extension://efaidnbmnnnibpcajpcglclefindmkaj/https://datasheet.lcsc.com/lcsc/1809191931_XLSEMI-XL1583E1_C74196.pdf; Category: Power Supply Chip/DC-DC Converters; Synchronous Rectification: NO; Function: Step-down type; Topology: Step-down; Output Voltage: 1.222V~21V; Input Voltage: 3.6V~23V; Output Current (Max): 3A; Switching Frequency: 380kHz; Package: SOP-8_150mil
footprint SOP127P600X175-8N (SOP, 8-Leads, Body 4.90x3.90mm, Pitch 1.27mm, IPC Medium Density)
pins: 2 VIN (power), 3 SW (power), 4 GND (power), 5 FB (in), 7 EN (in)

## ZTP7001-00
designator U?
70dB@(1kHz) 600mA 65uA 420mV@600mA -40℃~+125℃@(Tj) Adjustable Positive 70uVrms 1 6V Overcurrent Protection，Enable，Soft Starter，Thermal Protection SOT-23-5L Linear Voltage Regulators (LDO) ROHS; Manufacturer: ZILLTEK; Manufacturer Part Number: ZTP7001-00; Number of Outputs: 1; ComponentLink1Description: LCSC Link; ComponentLink1URL: https://www.lcsc.com/product-detail/Linear-Voltage-Regulators-LDO_span-style-background-color-ff0-ZILLTEK-span-ZTP7001-00_C481271.html; ComponentLink2Description: Datasheet; ComponentLink2URL: https://datasheet.lcsc.com/lcsc/2003161835_ZILLTEK-ZTP7001-00_C481271.pdf; Category: Power Supply Chip/Linear Voltage Regulators (LDO); Power Supply Rejection Ratio (PSRR): 70dB@(1kHz); Output Current: 600mA; Quiescent Current (Ground Current): 65uA; Dropout Voltage: 420mV@600mA; Operating Temperature: -40℃~+125℃@(Tj); Output Type: Adjustable; Output Polarity: Positive; Noise: 70uVrms; Maximum Input Voltage: 6V; Feature: Overcurrent Protection，Enable，Soft Starter，Thermal Protection; Package: SOT-23-5L
footprint SOT95P275X90-5N (SOT23, 5-Leads, Body 2.95x2.75mm, Pitch 0.95mm, IPC Medium Density)
pins: 1 VIN (power), 2 GND (power), 3 EN (in), 4 FB (in), 5 VOUT (power)